# EAGLE library part MCP6024-I/SL (library libSheldonDrone)
IC OPAMP 2.5V QUAD R-R
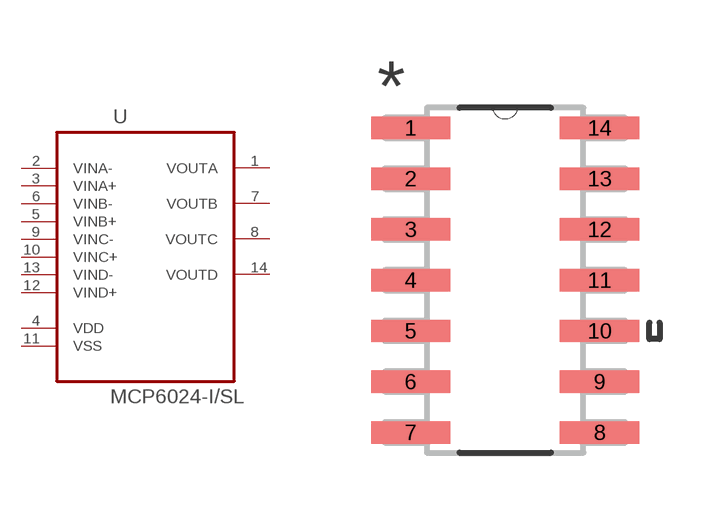
[diagram p0: symbol with the pads of SOIC127P600X175-14N; footprint SOIC127P600X175-14N]

Designator prefix U

## MCP6024-I/SL (MPN: MCP6024-I/SL; OC_FARNELL: 1292247; OC_NEWARK: 61K2953; PACKAGE: 14 - SOIC; SUPPLIER: Microchip)  [SOIC127P600X175-14N]
1  VOUTA  out
2  VINA-  in
3  VINA+  in
4  VDD  pwr
5  VINB+  in
6  VINB-  in
7  VOUTB  out
8  VOUTC  out
9  VINC-  in
10  VINC+  in
11  VSS  pas
12  VIND+  in
13  VIND-  in
14  VOUTD  out

## Footprint SOIC127P600X175-14N (pad centres in mm)
smd 1.981 x 0.559: 1 -2.362,3.81; 2 -2.362,2.54; 3 -2.362,1.27; 4 -2.362,0; 5 -2.362,-1.27; 6 -2.362,-2.54; 7 -2.362,-3.81; 8 2.362,-3.81; 9 2.362,-2.54; 10 2.362,-1.27; 11 2.362,0; 12 2.362,1.27; 13 2.362,2.54; 14 2.362,3.81